# Altium footprint library PCB - CONNECTOR - AMPHENOL - AMPHENOL 031-5640.PcbLib: 1 footprints
Each footprint in its own frame and in the unit in brackets; x right, y up, seen from the top. Pads: shape width x height; smd on the part's side, far side on the other; paste and mask are expansions set on the pad; w line width, h text height; cw(c..) or ccw(c..) is an arc to the next point about the centre after c.
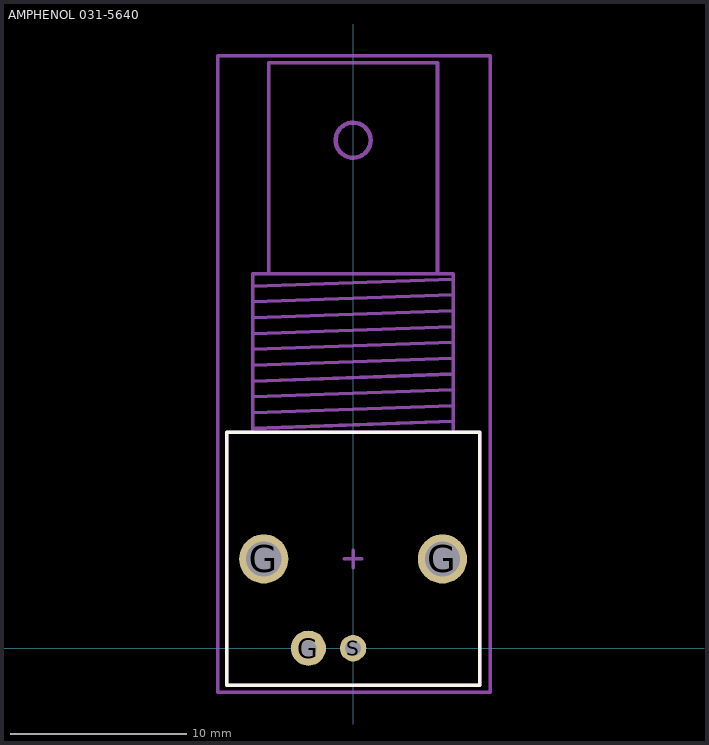
[diagram p0: the footprint, top view; thin cyan lines are the x and y axes]

## AMPHENOL 031-5640 [mm] "BNC Right Angle PCB Jack Through Hole Bulkhead Rear Mount 50 Ohm"
height 15.9
pads (4):
  round 2.8 hole 2 paste-2539.97: G(-5.08,5.08) G(5.08,5.08)
  round 2 hole 0.9 paste-2539.97: G(-2.54,0)
  round 1.5 hole 0.9 paste-2539.97: S(0,0)
Top Overlay:
  lines w0.2: -7.2,-2.1 -7.2,12.3 7.2,12.3 7.2,-2.1 -7.2,-2.1
Top Component Center:
  lines w0.2: -0.5,5.08 0.5,5.08 ; 0,4.58 0,5.58
Top Component Outline:
  circle w0.25: c0,28.9 r1
  lines w0.2: -5.7,12.3 -5.7,21.3 5.7,21.3 5.7,12.3 ; -5.7,12.5 5.7,12.9 ; -5.7,13.4 5.7,13.8 ; -5.7,14.3 5.7,14.7 ; -5.7,15.2 5.7,15.6 ; -5.7,16.1 5.7,16.5 ; -5.7,17 5.7,17.4 ; -5.7,17.9 5.7,18.3 ; -5.7,18.8 5.7,19.2 ; -5.7,19.7 5.7,20.1 ; -5.7,20.6 5.7,21 ; -4.8,21.3 -4.8,33.3 4.8,33.3 4.8,21.3 ; -7.2,-2.1 -7.2,12.3 7.2,12.3 7.2,-2.1 -7.2,-2.1
Top Courtyard (Mech15):
  lines w0.2: -7.7,-2.5 -7.7,33.7 7.8,33.7 7.8,-2.5 -7.7,-2.5
3D body "Amphenol 31-5640.step": height 15.62, standoff -4.08, extent -7.2,-2.126 7.2,33.274